# Altium footprint library Converter_ACDC.PcbLib: 42 footprints (part 3 of 3)
Each footprint in its own frame and in the unit in brackets; x right, y up, seen from the top. Pads: shape width x height; smd on the part's side, far side on the other; paste and mask are expansions set on the pad; w line width, h text height; cw(c..) or ccw(c..) is an arc to the next point about the centre after c.
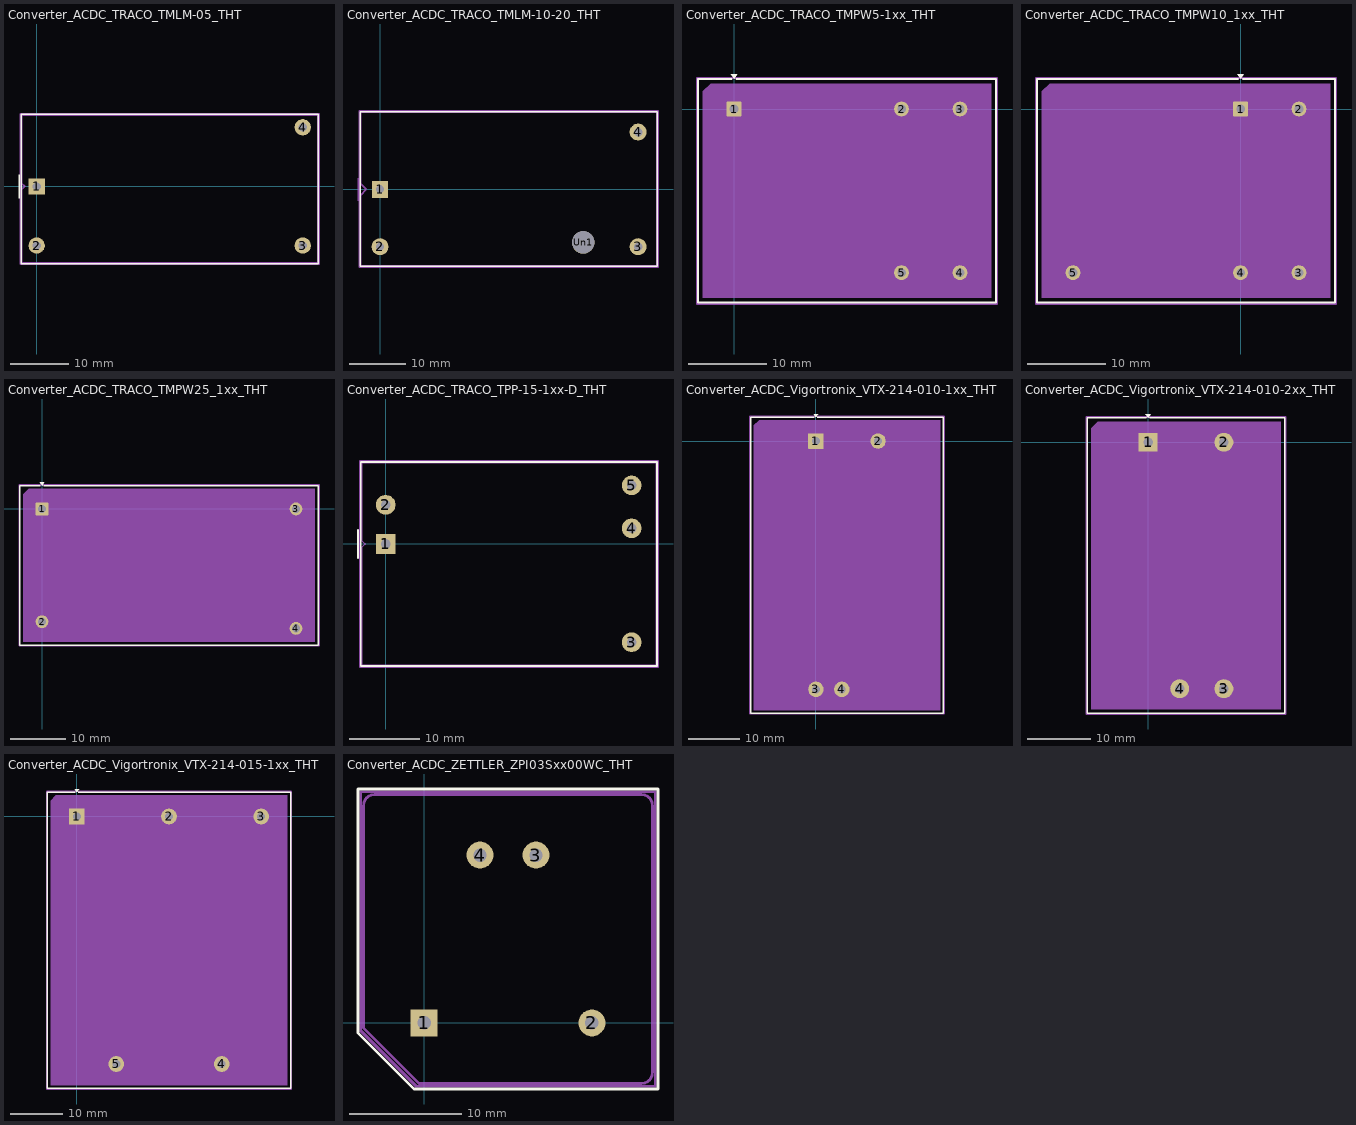
[diagram p2: the footprints below, top view; thin cyan lines are the x and y axes]

## Converter_ACDC_TRACO_TMLM-05_THT [mm]
pads (4):
  rect 2.8x2.8 hole 1.4: 1(0,0)
  round 2.8 hole 1.4: 2(0,-10.16) 3(45.72,-10.16) 4(45.72,10.16)
F.SilkS:
  lines w0.254: -3.04,-2 -3.04,2 ; -2.66,-13.26 48.38,-13.26 48.38,12.38 -2.66,12.38 -2.66,-13.26
Top Assembly:
  lines w0.254: -2.54,-13.14 48.26,-13.14 48.26,12.26 -2.54,12.26 -2.54,0.5 -2.04,0 -2.54,-0.5 -2.54,-13.14
  text "'.Designator'" at 18.953,-0.84 h1
Top Courtyard:
  lines w0.254: -2.79,-13.39 48.51,-13.39 48.51,12.51 -2.79,12.51 -2.79,-13.39
Top Designator:
  text ".Designator" at 15.117,-0.948 h1.52

## Converter_ACDC_TRACO_TMLM-10-20_THT [mm]
pads (5):
  rect 2.8x3 hole 1.5: 1(0,0)
  round 3 hole 1.5: 2(0,-10.16) 3(45.72,-10.16) 4(45.72,10.16)
  round 4 hole 4: Un1(36,-9.4)
F.SilkS:
  lines w0.254: -3.52,-13.66 49.12,-13.66 49.12,13.79 -3.52,13.79 -3.52,-13.66
Top Assembly:
  lines w0.254: -3.9,-2 -3.9,2 ; -3.4,-13.54 49,-13.54 49,13.66 -3.4,13.66 -3.4,1 -2.4,0 -3.4,-1 -3.4,-13.54
  text "'.Designator'" at 17.953,-0.84 h1
Top Courtyard:
  lines w0.254: -3.65,-13.79 49.25,-13.79 49.25,13.92 -3.65,13.92 -3.65,-13.79
Top Designator:
  text ".Designator" at 15.057,-0.443 h1.52

## Converter_ACDC_TRACO_TMPW5-1xx_THT [mm]
pads (5):
  rrect13% 1.9x1.9 hole 1.1: 1(0,0)
  round 1.9 hole 1.1: 2(21.5,0) 3(29,0) 4(29,-21) 5(21.5,-21)
F.SilkS:
  region: 0,3.86 -0.44,4.47 0.44,4.47
  lines w0.254: -0.296,3.86 -4.61,3.86 -4.61,-24.86 33.61,-24.86 33.61,3.86 0.296,3.86
Top Assembly:
  region: 33,-24.25 -4,-24.25 -4,2.25 -3,3.25 33,3.25
  text "'.Designator'" at 10.453,-11.34 h1
Top Courtyard:
  lines w0.254: -4.75,-25 33.75,-25 33.75,4 -4.75,4 -4.75,-25
Top Designator:
  text ".Designator" at 6.882,-10.836 h1.52

## Converter_ACDC_TRACO_TMPW10_1xx_THT [mm]
pads (5):
  rrect13% 1.9x1.9 hole 1.1: 1(0,0)
  round 1.9 hole 1.1: 2(7.5,0) 3(7.5,-21) 4(0,-21) 5(-21.5,-21)
F.SilkS:
  region: 0,3.86 -0.44,4.47 0.44,4.47
  lines w0.254: -0.296,3.86 -26.11,3.86 -26.11,-24.86 12.11,-24.86 12.11,3.86 0.296,3.86
Top Assembly:
  region: 11.5,-24.25 -25.5,-24.25 -25.5,2.25 -24.5,3.25 11.5,3.25
  text "'.Designator'" at -11.047,-11.34 h1
Top Courtyard:
  lines w0.254: -26.25,-25 12.25,-25 12.25,4 -26.25,4 -26.25,-25
Top Designator:
  text ".Designator" at -14.618,-10.836 h1.52

## Converter_ACDC_TRACO_TMPW25_1xx_THT [mm]
pads (4):
  rrect11% 2.3x2.3 hole 1.5: 1(0,0)
  round 2.3 hole 1.5: 2(0,-20.3) 3(45.7,0) 4(45.7,-21.5)
F.SilkS:
  region: 0,4.21 -0.44,4.82 0.44,4.82
  lines w0.254: -0.296,4.21 -4.01,4.21 -4.01,-24.51 49.71,-24.51 49.71,4.21 0.296,4.21
Top Assembly:
  region: 49.1,-23.9 -3.4,-23.9 -3.4,2.6 -2.4,3.6 49.1,3.6
  text "'.Designator'" at 18.803,-10.99 h1
Top Courtyard:
  lines w0.254: -4.15,-24.65 49.85,-24.65 49.85,4.35 -4.15,4.35 -4.15,-24.65
Top Designator:
  text ".Designator" at 15.232,-10.486 h1.52

## Converter_ACDC_TRACO_TPP-15-1xx-D_THT [mm]
pads (5):
  rect 2.8x2.8 hole 1.4: 1(0,0)
  round 2.8 hole 1.4: 2(0,5.59) 3(35.05,-14) 4(35.05,2.24) 5(35.05,8.36)
F.SilkS:
  lines w0.254: -3.95,-2 -3.95,2 ; -3.55,-17.4 38.65,-17.4 38.65,11.7 -3.55,11.7 -3.55,-17.4
Top Assembly:
  lines w0.254: -3.45,-17.3 38.55,-17.3 38.55,11.6 -3.45,11.6 -3.45,0.5 -2.95,0 -3.45,-0.5 -3.45,-17.3
  text "'.Designator'" at 13.503,-0.84 h1
Top Courtyard:
  lines w0.254: -3.7,-17.55 38.8,-17.55 38.8,11.85 -3.7,11.85 -3.7,-17.55
Top Designator:
  text ".Designator" at 9.807,-3.358 h1.52

## Converter_ACDC_Vigortronix_VTX-214-010-1xx_THT [mm]
pads (4):
  rrect8% 3x3 hole 1.5: 1(0,0)
  round 3 hole 1.5: 2(12,0) 3(0,-48) 4(5,-48)
F.SilkS:
  region: 0,4.61 -0.44,5.22 0.44,5.22
  lines w0.254: -0.296,4.61 -12.61,4.61 -12.61,-52.61 24.61,-52.61 24.61,4.61 0.296,4.61
Top Assembly:
  region: 24,-52 -12,-52 -12,3 -11,4 24,4
  text "'.Designator'" at 1.953,-24.84 h1
Top Courtyard:
  lines w0.254: -12.75,-52.75 24.75,-52.75 24.75,4.75 -12.75,4.75 -12.75,-52.75
Top Designator:
  text ".Designator" at -1.618,-24.336 h1.52

## Converter_ACDC_Vigortronix_VTX-214-010-2xx_THT [mm]
pads (4):
  rrect8% 3x3 hole 1.5: 1(0,0)
  round 3 hole 1.5: 2(12,0) 3(12,-39) 4(5,-39)
F.SilkS:
  region: 0,3.86 -0.44,4.47 0.44,4.47
  lines w0.254: -0.296,3.86 -9.61,3.86 -9.61,-42.86 21.61,-42.86 21.61,3.86 0.296,3.86
Top Assembly:
  region: 21,-42.25 -9,-42.25 -9,2.25 -8,3.25 21,3.25
  text "'.Designator'" at 1.953,-20.34 h1
Top Courtyard:
  lines w0.254: -9.75,-43 21.75,-43 21.75,4 -9.75,4 -9.75,-43
Top Designator:
  text ".Designator" at -1.618,-19.836 h1.52

## Converter_ACDC_Vigortronix_VTX-214-015-1xx_THT [mm]
pads (5):
  rrect8% 3x3 hole 1.5: 1(0,0)
  round 3 hole 1.5: 2(17.5,0) 3(35,0) 4(27.5,-47) 5(7.5,-47)
F.SilkS:
  region: 0,4.61 -0.44,5.22 0.44,5.22
  lines w0.254: -0.296,4.61 -5.61,4.61 -5.61,-51.61 40.61,-51.61 40.61,4.61 0.296,4.61
Top Assembly:
  region: 40,-51 -5,-51 -5,3 -4,4 40,4
  text "'.Designator'" at 13.453,-24.34 h1
Top Courtyard:
  lines w0.254: -5.75,-51.75 40.75,-51.75 40.75,4.75 -5.75,4.75 -5.75,-51.75
Top Designator:
  text ".Designator" at 9.882,-23.836 h1.52

## Converter_ACDC_ZETTLER_ZPI03Sxx00WC_THT [mm]
pads (4):
  rect 2.4x2.4 hole 1.2: 1(0,0)
  round 2.4 hole 1.2: 2(15,0) 3(10,15) 4(5,15)
F.SilkS:
  lines w0.254: -5.9,-0.9 -0.9,-5.9 20.9,-5.9 20.9,20.9 -5.9,20.9 -5.9,-0.9
Top Assembly:
  lines w0.254: -5.4,-0.45 -0.45,-5.4 19.4,-5.4 ccw(c19.438,-4.438) 20.4,-4.4 20.4,19.4 ccw(c19.438,19.438) 19.4,20.4 -4.4,20.4 ccw(c-4.438,19.438) -5.4,19.4 -5.4,-0.45
  text "'.Designator'" at 3.453,-11.08 h1
Top Courtyard:
  lines w0.254: -5.65,-0.7 -0.7,-5.65 20.65,-5.65 20.65,20.65 -5.65,20.65 -5.65,-0.7
Top Designator:
  text ".Designator" at -0.118,4.224 h1.52